# EAGLE library part TL497A (library Oles komponentbibliotek)
500 mA step-up, step-down, inverting switching voltage regulator
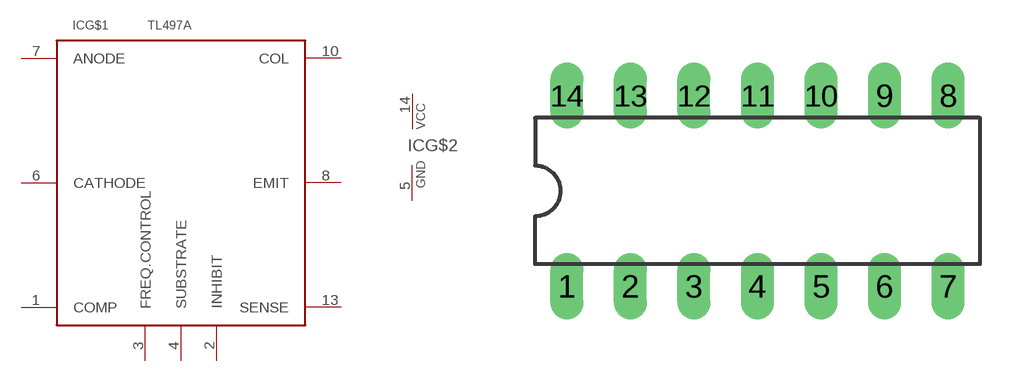
[diagram p4: symbol with the pads of DIL14; footprint DIL14]

Designator prefix IC; gates G$1=TL497A G$2=PWRN

## TL497A  [DIL14]
1  G$1:COMP
2  G$1:INHIBIT  in
3  G$1:FREQ.CONTROL  in
4  G$1:SUBSTRATE
5  G$2:GND  pwr
6  G$1:CATHODE
7  G$1:ANODE
8  G$1:EMIT  out
10  G$1:COL  out
13  G$1:SENSE  in
14  G$2:VCC  pwr

## Footprint DIL14 (pad centres in mm)
Dual In Line Package
drill 0.813 long: 1 -7.62,-3.81; 2 -5.08,-3.81; 3 -2.54,-3.81; 4 0,-3.81; 5 2.54,-3.81; 6 5.08,-3.81; 7 7.62,-3.81; 8 7.62,3.81; 9 5.08,3.81; 10 2.54,3.81; 11 0,3.81; 12 -2.54,3.81; 13 -5.08,3.81; 14 -7.62,3.81